# Altium footprint library SnapEDApcb.PcbLib: 1 footprints
Each footprint in its own frame and in the unit in brackets; x right, y up, seen from the top. Pads: shape width x height; smd on the part's side, far side on the other; paste and mask are expansions set on the pad; w line width, h text height; cw(c..) or ccw(c..) is an arc to the next point about the centre after c.
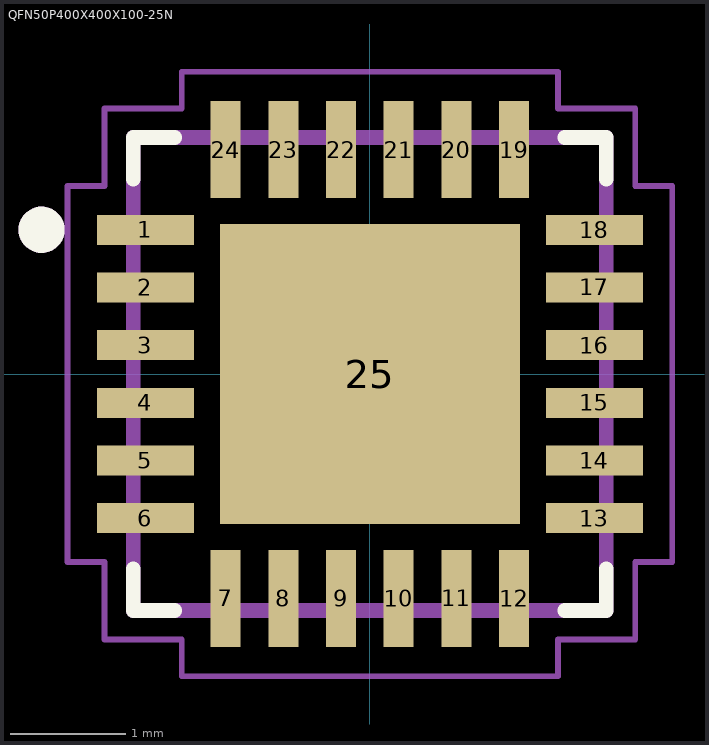
[diagram p0: the footprint, top view; thin cyan lines are the x and y axes]

## QFN50P400X400X100-25N [mm]
pads (25):
  rect 0.84x0.26 smd: 1(-1.945,1.25) 2(-1.945,0.75) 3(-1.945,0.25) 4(-1.945,-0.25) 5(-1.945,-0.75) 6(-1.945,-1.25) 13(1.945,-1.25) 14(1.945,-0.75) 15(1.945,-0.25) 16(1.945,0.25) 17(1.945,0.75) 18(1.945,1.25)
  rect 0.26x0.84 smd: 7(-1.25,-1.945) 8(-0.75,-1.945) 9(-0.25,-1.945) 10(0.25,-1.945) 11(0.75,-1.945) 12(1.25,-1.945) 19(1.25,1.945) 20(0.75,1.945) 21(0.25,1.945) 22(-0.25,1.945) 23(-0.75,1.945) 24(-1.25,1.945)
  rect 2.6x2.6 smd paste-2: 25(0,0)
Top Overlay:
  circle w0.3: c-2.845,1.25 r0.05
  lines w0.127: -2.05,-1.69 -2.05,-2.05 -1.69,-2.05 ; -2.05,1.69 -2.05,2.05 -1.69,2.05 ; 1.69,-2.05 2.05,-2.05 2.05,-1.69 ; 1.69,2.05 2.05,2.05 2.05,1.69
Top Paste:
  region: -0.125,0.125 -1.045,0.125 -1.045,1.045 -0.125,1.045
  region: 1.045,0.125 0.125,0.125 0.125,1.045 1.045,1.045
  region: 1.045,-1.045 0.125,-1.045 0.125,-0.125 1.045,-0.125
  region: -0.125,-1.045 -1.045,-1.045 -1.045,-0.125 -0.125,-0.125
Mechanical 13:
  circle w0.3: c-2.845,1.25 r0.05
  lines w0.127: -2.05,-2.05 -2.05,2.05 2.05,2.05 2.05,-2.05 -2.05,-2.05
Mechanical 15:
  lines w0.05: -2.62,-1.63 -2.62,1.63 -2.3,1.63 -2.3,2.3 -1.63,2.3 -1.63,2.62 1.63,2.62 1.63,2.3 2.3,2.3 2.3,1.63 2.62,1.63 2.62,-1.63 2.3,-1.63 2.3,-2.3 1.63,-2.3 1.63,-2.62 -1.63,-2.62 -1.63,-2.3 -2.3,-2.3 -2.3,-1.63 -2.62,-1.63